# EAGLE library part 00SPEEDY_EE20/10/6_THT_H_14PIN (library Wurth Electronics Midcom Inc V1-0)
Package Style: Speedy EE20/10/6 Mounting: THT Pins: 16 pins Bobbin: 070-5643 Best pinouts for production vary per application. Please contact Wurth Electronics Midcom, Inc. for assistance with your custom design. Website: Wurth Electronics Midcom <http://www.we-online.com/midcom> Contact us Wurth Electronics Midcom, Inc. 121 Airport Dr. Watertown, SD 57201 Phone: (605) 886-4385 Fax: (605) 886-4486 E-Mail: midcom@we-online.com
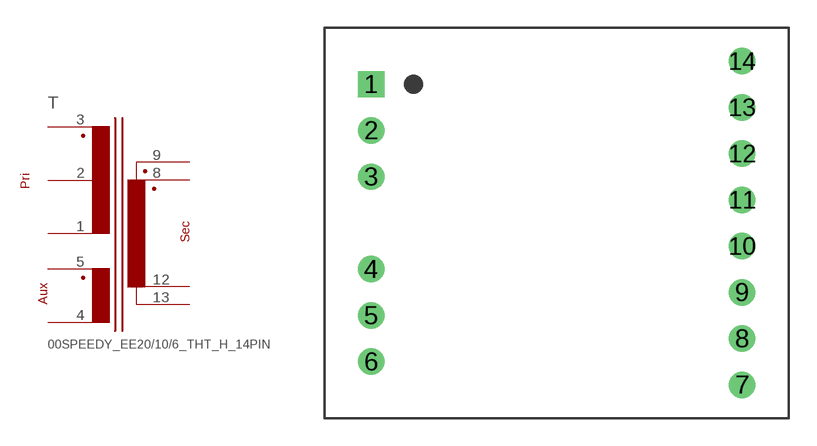
[diagram p108: symbol with the pads of 00SPEEDY_EE20/10/6_THT_H_14PIN; footprint 00SPEEDY_EE20/10/6_THT_H_14PIN]

Designator prefix T

## 00SPEEDY_EE20/10/6_THT_H_14PIN  [00SPEEDY_EE20/10/6_THT_H_14PIN]
1  3  pas
2  2  pas
3  1  pas
4  5  pas
5  4  pas
8  8  pas
9  7  pas
12  9  pas
13  6  pas

## Footprint 00SPEEDY_EE20/10/6_THT_H_14PIN (pad centres in mm)
Package Style: Speedy EE20/10/6 Mounting: THT Pins: 16 pins Bobbin: 070-5643
drill 0.914 square: 1 -9.995,7.468
drill 0.914 round: 2 -9.995,4.978; 3 -9.995,2.489; 4 -9.995,-2.489; 5 -9.995,-4.978; 6 -9.995,-7.468; 7 9.995,-8.712; 8 9.995,-6.223; 9 9.995,-3.734; 10 9.995,-1.245; 11 9.995,1.245; 12 9.995,3.734; 13 9.995,6.223; 14 9.995,8.712